# Altium footprint library Capital.PcbLib: 10 footprints
Each footprint in its own frame and in the unit in brackets; x right, y up, seen from the top. Pads: shape width x height; smd on the part's side, far side on the other; paste and mask are expansions set on the pad; w line width, h text height; cw(c..) or ccw(c..) is an arc to the next point about the centre after c.
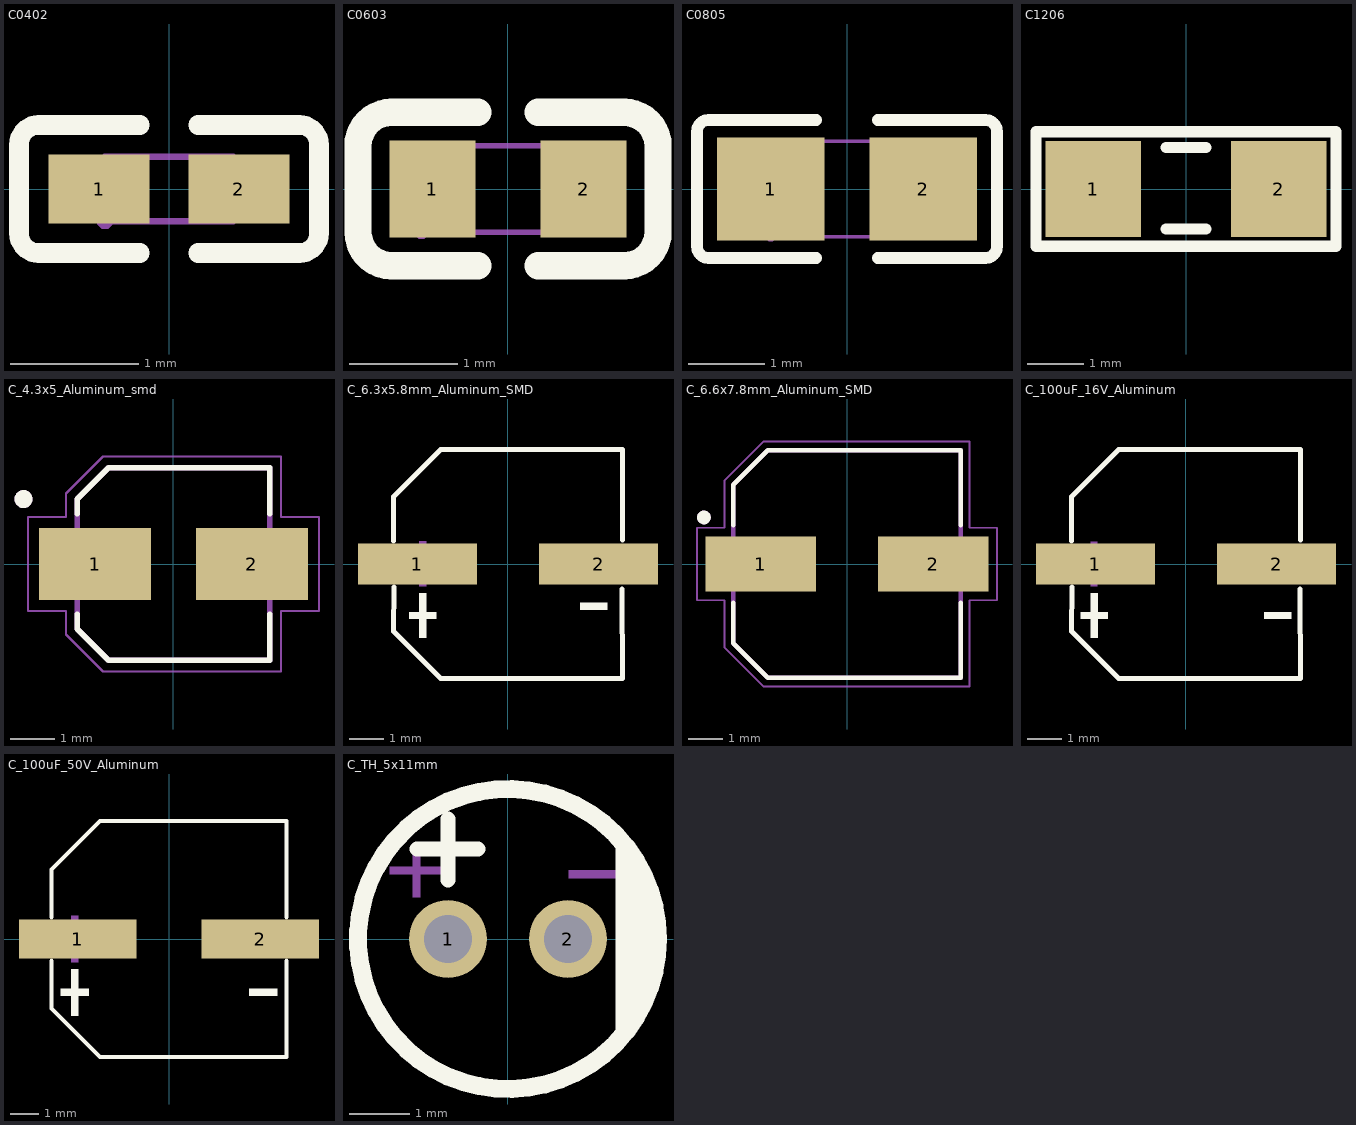
[diagram p0: the footprints below, top view; thin cyan lines are the x and y axes]

## C0402 [mm]
pads (2):
  rect 0.79x0.54 smd paste-100 mask+0.051: 1(-0.545,0) 2(0.545,0)
Top Overlay:
  lines w0.152: -0.226,-0.499 -1.016,-0.499 cw(c-1.016,-0.346) -1.169,-0.346 -1.169,0.346 cw(c-1.016,0.346) -1.016,0.499 -0.226,0.499 ; 0.226,-0.499 1.016,-0.499 ccw(c1.016,-0.346) 1.169,-0.346 1.169,0.346 ccw(c1.016,0.346) 1.016,0.499 0.226,0.499
Top Paste:
  region: -0.18,0.225 -0.18,-0.225 -0.25,-0.275 -0.73,-0.275 -0.78,-0.225 -0.78,0.225 -0.73,0.275 -0.25,0.275
  region: 0.78,0.225 0.78,-0.225 0.73,-0.275 0.25,-0.275 0.18,-0.225 0.18,0.225 0.25,0.275 0.73,0.275
Mechanical 15:
  region: -0.5,-0.25 -0.5,0.25 -0.25,0.25 -0.25,-0.25
  region: 0.5,-0.25 0.5,0.25 0.25,0.25 0.25,-0.25
  region: -0.44,-0.25 -0.44,-0.275 -0.475,-0.31 -0.525,-0.31 -0.56,-0.275 -0.56,-0.25 -0.56,-0.225 -0.525,-0.19 -0.475,-0.19 -0.44,-0.225
  lines w0.051: -0.5,-0.25 -0.5,0.25 0.5,0.25 0.5,-0.25 -0.5,-0.25
3D body "C0402.step": height 0.36, standoff 0, extent -0.5,-0.25 0.5,0.25

## C0603 [mm]
pads (2):
  rect 0.8x0.9 smd: 1(-0.7,0) 2(0.7,0)
Top Overlay:
  lines w0.254: -1.08,-0.71 -0.28,-0.71 ; -1.08,0.71 -0.28,0.71 ; -1.08,-0.71 cw(c-1.08,-0.4) -1.39,-0.4 -1.39,0.4 cw(c-1.08,0.4) -1.08,0.71 ; 0.28,-0.71 1.08,-0.71 ccw(c1.08,-0.4) 1.39,-0.4 1.39,0.4 ccw(c1.08,0.4) 1.08,0.71 0.28,0.71
Mechanical 15:
  region: -0.8,-0.4 -0.8,0.4 -0.5,0.4 -0.5,-0.4
  region: 0.8,-0.4 0.8,0.4 0.5,0.4 0.5,-0.4
  region: -0.74,-0.4 -0.74,-0.425 -0.775,-0.46 -0.825,-0.46 -0.86,-0.425 -0.86,-0.4 -0.86,-0.375 -0.825,-0.34 -0.775,-0.34 -0.74,-0.375
  lines w0.051: -0.8,-0.4 -0.8,0.4 0.8,0.4 0.8,-0.4 -0.8,-0.4
3D body "C0603.step": height 0.4, standoff 0, extent -0.8,-0.4 0.8,0.4

## C0805 [mm]
pads (2):
  rect 1.41x1.35 smd paste-100 mask+0.051: 1(-1,0) 2(1,0)
Top Overlay:
  lines w0.152: -0.401,-0.904 -1.811,-0.904 cw(c-1.811,-0.751) -1.964,-0.751 -1.964,0.751 cw(c-1.811,0.751) -1.811,0.904 -0.401,0.904 ; 0.401,-0.904 1.811,-0.904 ccw(c1.811,-0.751) 1.964,-0.751 1.964,0.751 ccw(c1.811,0.751) 1.811,0.904 0.401,0.904
Top Paste:
  region: 1.705,0.64 1.705,-0.64 1.655,-0.69 0.505,-0.69 0.455,-0.64 0.45,-0.23 0.9,-0.23 0.9,0.22 0.46,0.22 0.455,0.64 0.505,0.69 1.655,0.69
  region: -1.705,-0.64 -1.705,0.64 -1.655,0.69 -0.505,0.69 -0.455,0.64 -0.45,0.23 -0.9,0.23 -0.9,-0.22 -0.46,-0.22 -0.455,-0.64 -0.505,-0.69 -1.655,-0.69
Mechanical 15:
  region: 1,0.625 1,-0.625 0.5,-0.625 0.5,0.625
  region: -1,-0.625 -1,0.625 -0.5,0.625 -0.5,-0.625
  region: -0.94,-0.625 -0.94,-0.65 -0.975,-0.685 -1.025,-0.685 -1.06,-0.65 -1.06,-0.625 -1.06,-0.6 -1.025,-0.565 -0.975,-0.565 -0.94,-0.6
  lines w0.051: -1,-0.625 1,-0.625 1,0.625 -1,0.625 -1,-0.625
3D body "C0805.step": height 0.6, standoff 0, extent -1,-0.625 1,0.625

## C1206 [mm]
pads (2):
  rect 1.7x1.7 smd: 1(-1.65,0) 2(1.65,0)
Top Overlay:
  lines w0.2: -0.356,-0.711 0.356,-0.711 ; -0.356,0.737 0.356,0.737 ; -2.667,-1.016 -2.667,1.016 2.667,1.016 2.667,-0.483 2.667,-1.016 -2.667,-1.016
3D body "C1206.step": height 0.6, standoff 0, extent -1.6,-0.8 1.6,0.8

## C_4.3x5_Aluminum_smd [mm]
pads (2):
  rect 2.5x1.6 smd: 1(-1.75,0) 2(1.75,0)
Top Overlay:
  circle w0.2: c-3.35,1.45 r0.1
  lines w0.127: -2.15,-1.12 -2.15,-1.45 -1.45,-2.15 2.15,-2.15 2.15,-1.12 ; -2.15,1.12 -2.15,1.45 -1.45,2.15 2.15,2.15 2.15,1.12
Mechanical 13:
  circle w0.2: c-3.35,1.45 r0.1
  lines w0.127: -2.15,-1.45 -1.45,-2.15 2.15,-2.15 2.15,2.15 -1.45,2.15 -2.15,1.45 -2.15,-1.45
Mechanical 15:
  lines w0.05: -3.25,-1.05 -3.25,1.05 -2.4,1.05 -2.4,1.575 -1.575,2.4 2.4,2.4 2.4,1.05 3.25,1.05 3.25,-1.05 2.4,-1.05 2.4,-2.4 -1.575,-2.4 -2.4,-1.575 -2.4,-1.05 -3.25,-1.05
3D body "step_temp.STEP": height 5.81, standoff 0.01, extent -2.373,-2.15 2.627,2.15

## C_6.3x5.8mm_Aluminum_SMD [mm] "16V 10uF ±20% SMD,D6.3xL5.8mm Aluminum - Polymer Capacitors RoHS"
pads (2):
  rect 3.5x1.2 smd paste+0 mask+0.051: 1(-2.67,0) 2(2.67,0)
Top Overlay:
  region: -2.614,-0.858 -2.614,-2.178 -2.416,-2.178 -2.416,-0.858
  region: -2.911,-1.419 -2.911,-1.617 -2.119,-1.617 -2.119,-1.419
  region: 2.921,-1.143 2.921,-1.341 2.129,-1.341 2.129,-1.143
  lines w0.152: -3.376,0.686 -3.376,1.98 -1.98,3.376 3.376,3.376 3.369,0.708 ; -3.362,-0.686 -3.376,-1.981 -1.981,-3.376 3.376,-3.376 3.356,-0.739
Mechanical 15:
  region: -2.41,-0.654 -2.41,0.666 -2.608,0.666 -2.608,-0.654
  region: -1.88,0.099 -3.2,0.099 -3.2,-0.099 -1.88,-0.099
  region: 2.848,0.099 2.848,-0.099 2.056,-0.099 2.056,0.099
3D body "CS47 25V CAPACITOR.step": height 5.51, standoff -0.15, extent -3.9,-3.298 3.9,3.302

## C_6.6x7.8mm_Aluminum_SMD [mm]
height 7.7
pads (2):
  rect 3.2x1.6 smd: 1(-2.5,0) 2(2.5,0)
Top Overlay:
  circle w0.2: c-4.15,1.35 r0.1
  lines w0.127: -3.3,-1.12 -3.3,-2.3 -2.3,-3.3 3.3,-3.3 3.3,-1.12 ; -3.3,1.12 -3.3,2.3 -2.3,3.3 3.3,3.3 3.3,1.12
Mechanical 13:
  circle w0.2: c-4.15,1.35 r0.1
  lines w0.127: -3.3,-2.3 -2.3,-3.3 3.3,-3.3 3.3,3.3 -2.3,3.3 -3.3,2.3 -3.3,-2.3
Mechanical 15:
  lines w0.05: -4.35,-1.05 -4.35,1.05 -3.55,1.05 -3.55,2.425 -2.425,3.55 3.55,3.55 3.55,1.05 4.35,1.05 4.35,-1.05 3.55,-1.05 3.55,-3.55 -2.425,-3.55 -3.55,-2.425 -3.55,-1.05 -4.35,-1.05
3D body "step_temp.STEP": height 7.7, standoff 0, extent -3.65,-3.3 3.65,3.3

## C_100uF_16V_Aluminum [mm] "100uF 16V ±20% 63mA@120Hz SMD,D6.3xL5.4mm Aluminum Electrolytic Capacitors RoHS"
pads (2):
  rect 3.5x1.2 smd paste+0 mask+0.051: 1(-2.67,0) 2(2.67,0)
Top Overlay:
  region: -2.805,-0.858 -2.805,-2.178 -2.607,-2.178 -2.607,-0.858
  region: -3.102,-1.419 -3.102,-1.617 -2.31,-1.617 -2.31,-1.419
  region: 3.102,-1.419 3.102,-1.617 2.31,-1.617 2.31,-1.419
  lines w0.152: -3.376,0.686 -3.376,1.98 -1.98,3.376 3.376,3.376 3.369,0.708 ; -3.362,-0.686 -3.376,-1.981 -1.981,-3.376 3.376,-3.376 3.356,-0.739
Mechanical 15:
  region: -2.81,0.66 -2.81,-0.66 -2.612,-0.66 -2.612,0.66
  region: -3.102,0.099 -3.102,-0.099 -2.31,-0.099 -2.31,0.099
  region: 3.102,0.099 3.102,-0.099 2.31,-0.099 2.31,0.099
3D body "EEE1CA101WAP.STEP": height 5.8, standoff 0, extent -3.65,-3.3 3.65,3.3

## C_100uF_50V_Aluminum [mm] "100uF 50V ±20% 146mA@120Hz SMD,D8xL10.2mm Aluminum Electrolytic Capacitors RoHS"
pads (2):
  rect 4.2x1.4 smd paste+0 mask+0.051: 1(-3.267,0) 2(3.267,0)
Top Overlay:
  region: 3.876,-1.785 3.876,-2.033 2.88,-2.033 2.88,-1.785
  region: -3.876,-1.785 -3.876,-2.033 -2.88,-2.033 -2.88,-1.785
  region: -3.503,-1.079 -3.503,-2.739 -3.254,-2.739 -3.254,-1.079
  lines w0.152: -4.201,-0.782 -4.201,-2.49 -2.465,-4.226 4.201,-4.226 4.201,-0.782 ; -4.201,0.782 -4.201,2.49 -2.465,4.226 4.201,4.226 4.201,0.782
Mechanical 15:
  region: 3.876,0.125 3.876,-0.125 2.88,-0.125 2.88,0.125
  region: -3.876,0.125 -3.876,-0.125 -2.88,-0.125 -2.88,0.125
  region: -3.503,0.83 -3.503,-0.83 -3.254,-0.83 -3.254,0.83
3D body "25SVT100M.STEP": height 6.9, standoff 0, extent -4.5,-4.15 4.5,4.15

## C_TH_5x11mm [mm]
pads (2):
  round 1.3 hole 0.8 paste-2539.97 mask+0.051: 1(-1,0) 2(1,0)
Top Overlay:
  circle w0.3: c0,0 r2.5
  region: 1.794,1.651 1.961,1.491 2.225,1.111 2.407,0.685 2.5,0.231 2.5,-0.231 2.407,-0.685 2.225,-1.111 1.961,-1.491 1.794,-1.651
  lines w0.254: -1.516,1.5 -0.5,1.5 ; -1,0.984 -1,2
Mechanical 15:
  region: 1.016,1.143 1.905,1.143 1.905,1.016 1.016,1.016
  region: -1.588,0.699 -1.588,1.587 -1.461,1.587 -1.46,0.699
  region: -1.969,1.206 -1.08,1.206 -1.08,1.079 -1.969,1.079
3D body "Elco 10uF-35V (5 x 11 mm).STEP": height 1.69, standoff -11.51, extent -2.55,-2.55 2.55,2.55